# EAGLE library part GY-25 (library ali_modules)
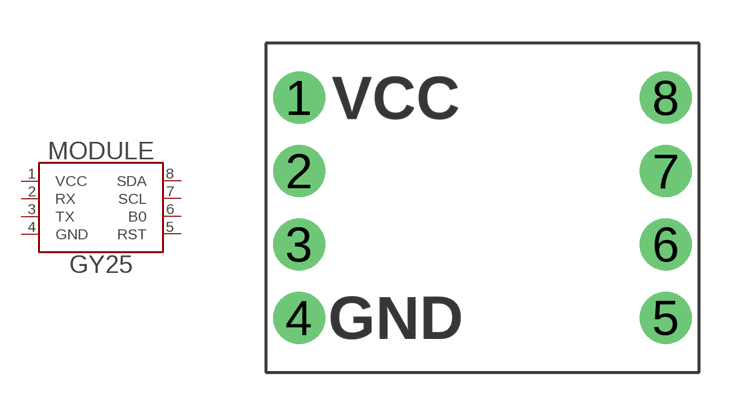
[diagram p3: symbol with the pads of GY-25; footprint GY-25]

Designator prefix MODULE

## GY-25  [GY-25]
1  VCC
2  RX
3  TX
4  GND
5  RST
6  B0
7  SCL
8  SDA

## Footprint GY-25 (pad centres in mm)
drill 1 pad 1.8: 1 -6.35,3.81; 2 -6.35,1.27; 3 -6.35,-1.27; 4 -6.35,-3.81; 5 6.35,-3.81; 6 6.35,-1.27; 7 6.35,1.27; 8 6.35,3.81